# Altium footprint library jobeiri_library.PcbLib: 20 footprints (part 1 of 2)
Each footprint in its own frame and in the unit in brackets; x right, y up, seen from the top. Pads: shape width x height; smd on the part's side, far side on the other; paste and mask are expansions set on the pad; w line width, h text height; cw(c..) or ccw(c..) is an arc to the next point about the centre after c.
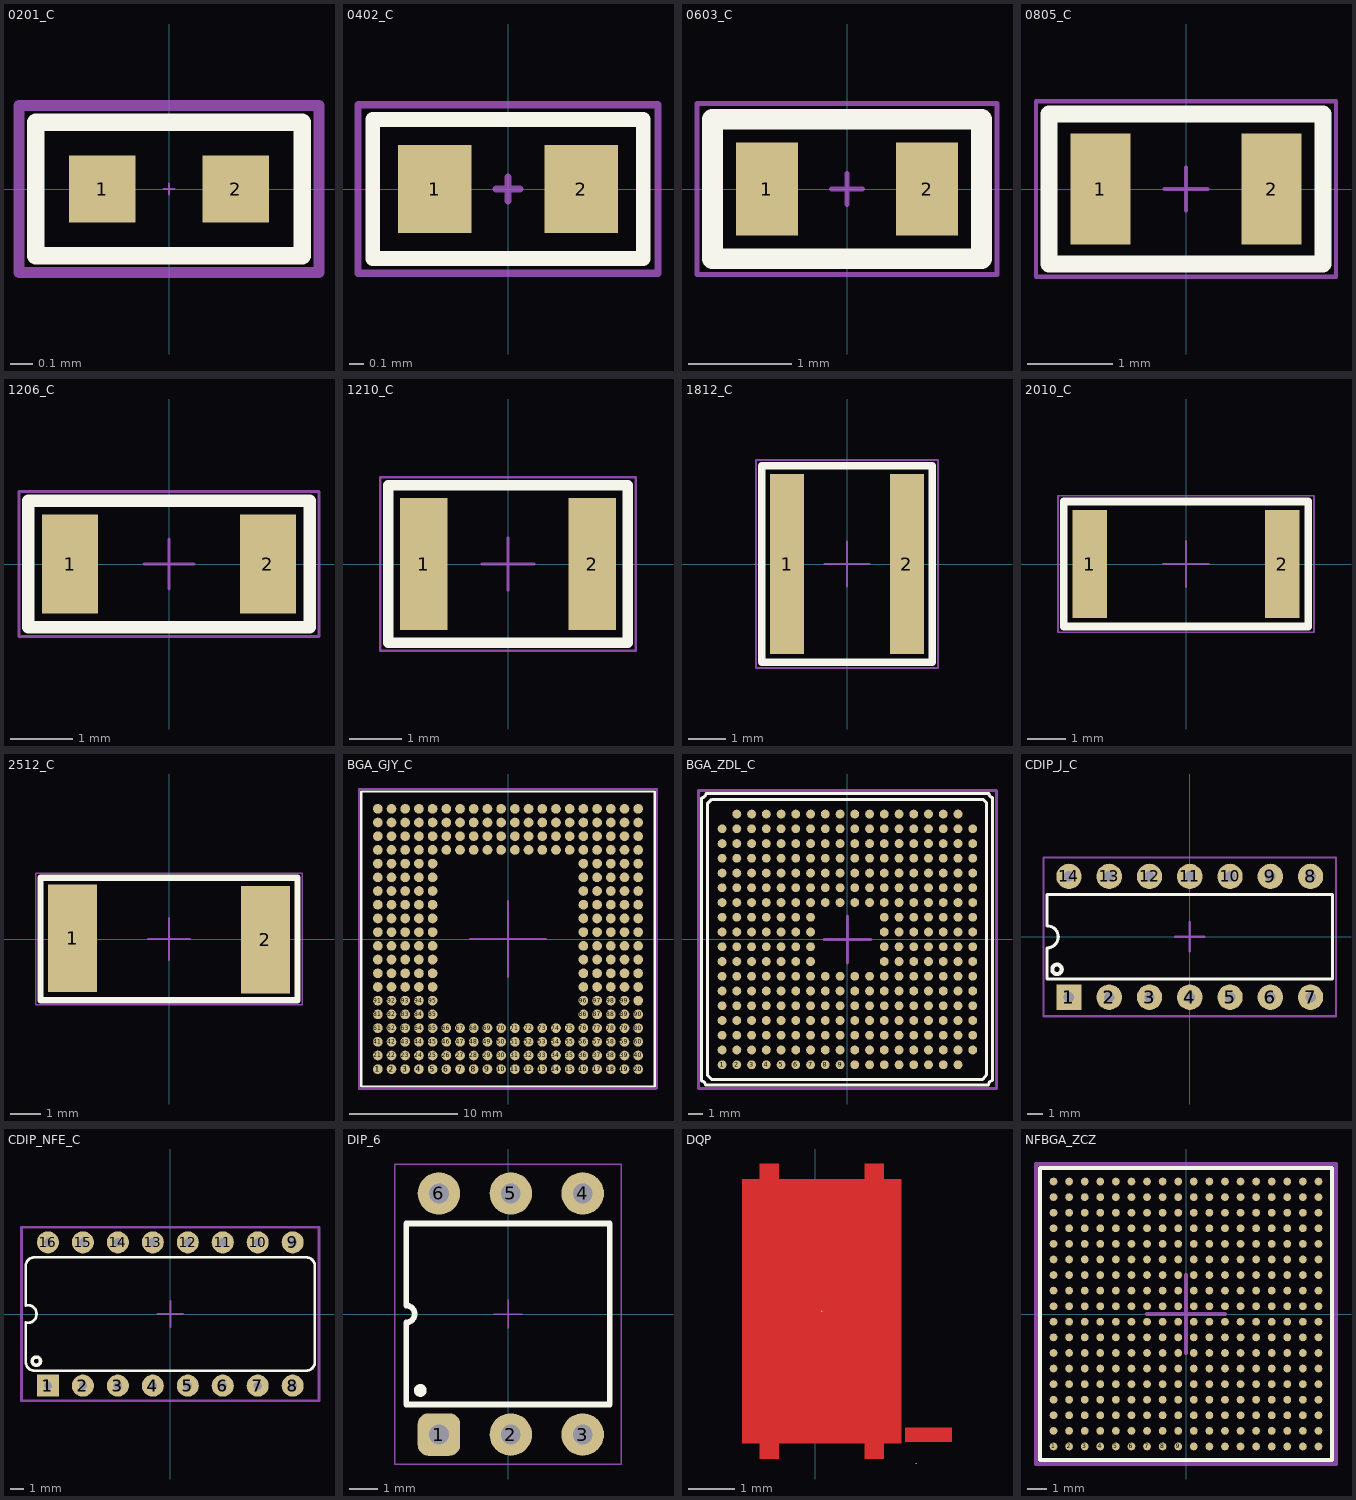
[diagram p0: the footprints below, top view; thin cyan lines are the x and y axes]

## 0201_C [mm]
pads (2):
  rect 0.3x0.3 smd: 1(-0.3,0) 2(0.3,0)
Top Overlay:
  lines w0.08: -0.6,-0.3 -0.6,0.3 0.6,0.3 0.6,-0.3 -0.6,-0.3
Mechanical 15:
  lines w0.01: -0.025,0 0,0 ; 0,-0.025 0,0 ; 0,0.025 0,0 ; 0.025,0 0,0
  lines w0.05: -0.675,-0.375 -0.675,0.375 0.675,0.375 0.675,-0.375 -0.675,-0.375
3D body: height 0.25, standoff 0, extent -0.3,-0.15 0.3,0.15

## 0402_C [mm]
pads (2):
  rect 0.5x0.6 smd: 1(-0.5,0) 2(0.5,0)
Top Overlay:
  lines w0.1: -0.925,-0.475 0.925,-0.475 ; -0.925,-0.475 -0.925,-0.475 ; -0.925,-0.475 -0.925,0.475 ; -0.925,0.475 0.925,0.475 ; -0.925,0.475 -0.925,0.475 ; 0.925,-0.475 0.925,-0.475 ; 0.925,-0.475 0.925,0.475 ; 0.925,0.475 0.925,0.475
Mechanical 15:
  lines w0.05: -0.08,0 0,0 ; 0,-0.08 0,0 ; 0,0.08 0,0 ; 0.08,0 0,0 ; -1.025,-0.575 1.025,-0.575 1.025,0.575 -1.025,0.575 -1.025,-0.575
3D body: height 0.35, standoff 0, extent -0.5,-0.25 0.5,0.25

## 0603_C [mm]
pads (2):
  rect 0.6x0.9 smd: 1(-0.775,0) 2(0.775,0)
Top Overlay:
  lines w0.2: -1.3,-0.675 1.3,-0.675 1.3,0.675 -1.3,0.675 -1.3,-0.675
Mechanical 15:
  lines w0.05: -0.15,0 0,0 ; 0,-0.15 0,0 ; 0,0.15 0,0 ; 0.15,0 0,0 ; -1.45,-0.825 1.45,-0.825 1.45,0.825 -1.45,0.825 -1.45,-0.825
3D body: height 0.45, standoff 0, extent -0.775,-0.425 0.775,0.425

## 0805_C [mm]
pads (2):
  rect 0.7x1.3 smd: 1(-1,0) 2(1,0)
Top Overlay:
  lines w0.2: -1.6,-0.875 -1.6,0.875 1.6,0.875 1.6,-0.875 -1.6,-0.875
Mechanical 15:
  lines w0.05: -0.25,0 0,0 ; 0,-0.25 0,0 ; 0,0.25 0,0 ; 0.25,0 0,0 ; -1.75,-1.025 -1.75,1.025 1.75,1.025 1.75,-1.025 -1.75,-1.025
3D body: height 0.45, standoff 0, extent -1,-0.6 1,0.6

## 1206_C [mm]
pads (2):
  rect 0.9x1.6 smd: 1(-1.6,0) 2(1.6,0)
Top Overlay:
  lines w0.2: -2.275,1 -2.275,-1.025 2.275,-1.025 ; -2.275,1.025 2.275,1.025 2.275,-1
Mechanical 15:
  lines w0.05: -0.4,0 0,0 ; 0,-0.4 0,0 ; 0,0.4 0,0 ; 0.4,0 0,0 ; -2.425,-1.175 2.425,-1.175 2.425,1.175 -2.425,1.175 -2.425,-1.175
3D body: height 0.55, standoff 0, extent -1.6,-0.8 1.6,0.8

## 1210_C [mm]
pads (2):
  rect 0.9x2.5 smd: 1(-1.6,0) 2(1.6,0)
Top Overlay:
  lines w0.2: -2.275,-1.5 -2.275,1.5 ; -2.25,-1.5 2.25,-1.5 ; -2.25,1.5 2.25,1.5 ; 2.275,-1.5 2.275,1.5
Mechanical 15:
  lines w0.05: -0.5,0 0,0 ; 0,-0.5 0,0 ; 0,0.5 0,0 ; 0.5,0 0,0 ; -2.425,-1.65 -2.425,1.65 2.425,1.65 2.425,-1.65 -2.425,-1.65
3D body: height 0.55, standoff 0, extent -1.6,-1.25 1.6,1.25

## 1812_C [mm]
pads (2):
  rect 0.9x4.8 smd: 1(-1.6,0) 2(1.6,0)
Top Overlay:
  lines w0.2: -2.275,2.6 -2.275,-2.625 2.275,-2.625 ; -2.275,2.625 2.275,2.625 2.275,-2.6
Mechanical 15:
  lines w0.05: -2.431,2.777 -2.431,-2.773 2.419,-2.773 ; -2.425,2.775 2.425,2.775 2.425,-2.775 ; -0.6,0 0,0 ; 0,-0.6 0,0 ; 0,0.6 0,0 ; 0.6,0 0,0
3D body: height 0.55, standoff 0, extent -1.6,-2.3 1.6,2.3

## 2010_C [mm]
pads (2):
  rect 0.9x2.8 smd: 1(-2.5,0) 2(2.5,0)
Top Overlay:
  lines w0.2: -3.175,-1.625 3.175,-1.625 ; -3.175,-1.6 -3.175,1.6 ; -3.175,1.625 3.175,1.625 ; 3.175,-1.6 3.175,1.6
Mechanical 15:
  lines w0.05: -0.6,0 0,0 ; 0,-0.6 0,0 ; 0,0.6 0,0 ; 0.6,0 0,0 ; -3.325,-1.775 -3.325,1.775 3.325,1.775 3.325,-1.775 -3.325,-1.775
3D body: height 0.6, standoff 0, extent -2.5,-1.25 2.5,1.25

## 2512_C [mm]
pads (2):
  rect 1.6x3.5 smd: 1(-3.15,0.025) 2(3.15,-0.025)
Top Overlay:
  lines w0.2: -4.2,1.975 -4.2,-2 4.2,-2 ; -4.2,2 4.2,2 4.2,-1.975
Mechanical 15:
  lines w0.05: -0.7,0 0,0 ; 0,-0.7 0,0 ; 0,0.7 0,0 ; 0.7,0 0,0 ; -4.35,-2.15 -4.35,2.15 4.35,2.15 4.35,-2.15 -4.35,-2.15
3D body: height 0.6, standoff 0, extent -3.15,-1.575 3.15,1.625

## BGA_GJY_C [mm] "From Texas Instrument"
pads (320):
  round 0.9 smd: 1(-12.065,-12.065) 1(-12.065,-12.065) 2(-10.795,-12.065) 2(-10.795,-12.065) 3(-9.525,-12.065) 3(-9.525,-12.065) 4(-8.255,-12.065) 4(-8.255,-12.065) 5(-6.985,-12.065) 5(-6.985,-12.065) 6(-5.715,-12.065) 6(-5.715,-12.065) 7(-4.445,-12.065) 7(-4.445,-12.065) 8(-3.175,-12.065) 8(-3.175,-12.065) 9(-1.905,-12.065) 9(-1.905,-12.065) 10(-0.635,-12.065) 10(-0.635,-12.065) 11(0.635,-12.065) 11(0.635,-12.065) 12(1.905,-12.065) 12(1.905,-12.065) 13(3.175,-12.065) 13(3.175,-12.065) 14(4.445,-12.065) 14(4.445,-12.065) 15(5.715,-12.065) 15(5.715,-12.065) 16(6.985,-12.065) 16(6.985,-12.065) 17(8.255,-12.065) 17(8.255,-12.065) 18(9.525,-12.065) 18(9.525,-12.065) 19(10.795,-12.065) 19(10.795,-12.065) 20(12.065,-12.065) 20(12.065,-12.065) 21(-12.065,-10.795) 22(-10.795,-10.795) 23(-9.525,-10.795) 24(-8.255,-10.795) 25(-6.985,-10.795) 26(-5.715,-10.795) 27(-4.445,-10.795) 28(-3.175,-10.795) 29(-1.905,-10.795) 30(-0.635,-10.795) 31(0.635,-10.795) 32(1.905,-10.795) 33(3.175,-10.795) 34(4.445,-10.795) 35(5.715,-10.795) 36(6.985,-10.795) 37(8.255,-10.795) 38(9.525,-10.795) 39(10.795,-10.795) 40(12.065,-10.795) 41(-12.065,-9.525) 42(-10.795,-9.525) 43(-9.525,-9.525) 44(-8.255,-9.525) 45(-6.985,-9.525) 46(-5.715,-9.525) 47(-4.445,-9.525) 48(-3.175,-9.525) 49(-1.905,-9.525) 50(-0.635,-9.525) 51(0.635,-9.525) 52(1.905,-9.525) 53(3.175,-9.525) 54(4.445,-9.525) 55(5.715,-9.525) 56(6.985,-9.525) 57(8.255,-9.525) 58(9.525,-9.525) 59(10.795,-9.525) 60(12.065,-9.525) 61(-12.065,-8.255) 62(-10.795,-8.255) 63(-9.525,-8.255) 64(-8.255,-8.255) 65(-6.985,-8.255) 66(-5.715,-8.255) 67(-4.445,-8.255) 68(-3.175,-8.255) 69(-1.905,-8.255) 70(-0.635,-8.255) 71(0.635,-8.255) 72(1.905,-8.255) 73(3.175,-8.255) 74(4.445,-8.255) 75(5.715,-8.255) 76(6.985,-8.255) 77(8.255,-8.255) 78(9.525,-8.255) 79(10.795,-8.255) 80(12.065,-8.255) 81(-12.065,-6.985) 82(-10.795,-6.985) 83(-9.525,-6.985) 84(-8.255,-6.985) 85(-6.985,-6.985) 86(6.985,-6.985) 87(8.255,-6.985) 88(9.525,-6.985) 89(10.795,-6.985) 90(12.065,-6.985) 91(-12.065,-5.715) 92(-10.795,-5.715) 93(-9.525,-5.715) 94(-8.255,-5.715) 95(-6.985,-5.715) 96(6.985,-5.715) 97(8.255,-5.715) 98(9.525,-5.715) 99(10.795,-5.715) 100(12.065,-5.715) 101(-12.065,-4.445) 102(-10.795,-4.445) 103(-9.525,-4.445) 104(-8.255,-4.445) 105(-6.985,-4.445) 106(6.985,-4.445) 107(8.255,-4.445) 108(9.525,-4.445) 109(10.795,-4.445) 110(12.065,-4.445) 111(-12.065,-3.175) 112(-10.795,-3.175) 113(-9.525,-3.175) 114(-8.255,-3.175) 115(-6.985,-3.175) 116(6.985,-3.175) 117(8.255,-3.175) 118(9.525,-3.175) 119(10.795,-3.175) 120(12.065,-3.175) 121(-12.065,-1.905) 122(-10.795,-1.905) 123(-9.525,-1.905) 124(-8.255,-1.905) 125(-6.985,-1.905) 126(6.985,-1.905) 127(8.255,-1.905) 128(9.525,-1.905) 129(10.795,-1.905) 130(12.065,-1.905) 131(-12.065,-0.635) 132(-10.795,-0.635) 133(-9.525,-0.635) 134(-8.255,-0.635) 135(-6.985,-0.635) 136(6.985,-0.635) 137(8.255,-0.635) 138(9.525,-0.635) 139(10.795,-0.635) 140(12.065,-0.635) 141(-12.065,0.635) 142(-10.795,0.635) 143(-9.525,0.635) 144(-8.255,0.635) 145(-6.985,0.635) 146(6.985,0.635) 147(8.255,0.635) 148(9.525,0.635) 149(10.795,0.635) 150(12.065,0.635) 151(-12.065,1.905) 152(-10.795,1.905) 153(-9.525,1.905) 154(-8.255,1.905) 155(-6.985,1.905) 156(6.985,1.905) 157(8.255,1.905) 158(9.525,1.905) 159(10.795,1.905) 160(12.065,1.905) 161(-12.065,3.175) 162(-10.795,3.175) 163(-9.525,3.175) 164(-8.255,3.175) 165(-6.985,3.175) 166(6.985,3.175) 167(8.255,3.175) 168(9.525,3.175) 169(10.795,3.175) 170(12.065,3.175) 171(-12.065,4.445) 172(-10.795,4.445) 173(-9.525,4.445) 174(-8.255,4.445) 175(-6.985,4.445) 176(6.985,4.445) 177(8.255,4.445) 178(9.525,4.445) 179(10.795,4.445) 180(12.065,4.445) 181(-12.065,5.715) 182(-10.795,5.715) 183(-9.525,5.715) 184(-8.255,5.715) 185(-6.985,5.715) 186(6.985,5.715) 187(8.255,5.715) 188(9.525,5.715) 189(10.795,5.715) 190(12.065,5.715) 191(-12.065,6.985) 192(-10.795,6.985) 193(-9.525,6.985) 194(-8.255,6.985) 195(-6.985,6.985) 196(6.985,6.985) 197(8.255,6.985) 198(9.525,6.985) 199(10.795,6.985) 200(12.065,6.985) 201(-12.065,8.255) 201(-12.065,8.255) 202(-10.795,8.255) 202(-10.795,8.255) 203(-9.525,8.255) 203(-9.525,8.255) 204(-8.255,8.255) 204(-8.255,8.255) 205(-6.985,8.255) 205(-6.985,8.255) 206(-5.715,8.255) 206(-5.715,8.255) 207(-4.445,8.255) 207(-4.445,8.255) 208(-3.175,8.255) 208(-3.175,8.255) 209(-1.905,8.255) 209(-1.905,8.255) 210(-0.635,8.255) 210(-0.635,8.255) 211(0.635,8.255) 211(0.635,8.255) 212(1.905,8.255) 212(1.905,8.255) 213(3.175,8.255) 213(3.175,8.255) 214(4.445,8.255) 214(4.445,8.255) 215(5.715,8.255) 215(5.715,8.255) 216(6.985,8.255) 216(6.985,8.255) 217(8.255,8.255) 217(8.255,8.255) 218(9.525,8.255) 218(9.525,8.255) 219(10.795,8.255) 219(10.795,8.255) 220(12.065,8.255) 220(12.065,8.255) 221(-12.065,9.525) 222(-10.795,9.525) 223(-9.525,9.525) 224(-8.255,9.525) 225(-6.985,9.525) 226(-5.715,9.525) 227(-4.445,9.525) 228(-3.175,9.525) 229(-1.905,9.525) 230(-0.635,9.525) 231(0.635,9.525) 232(1.905,9.525) 233(3.175,9.525) 234(4.445,9.525) 235(5.715,9.525) 236(6.985,9.525) 237(8.255,9.525) 238(9.525,9.525) 239(10.795,9.525) 240(12.065,9.525) 241(-12.065,10.795) 242(-10.795,10.795) 243(-9.525,10.795) 244(-8.255,10.795) 245(-6.985,10.795) 246(-5.715,10.795) 247(-4.445,10.795) 248(-3.175,10.795) 249(-1.905,10.795) 250(-0.635,10.795) 251(0.635,10.795) 252(1.905,10.795) 253(3.175,10.795) 254(4.445,10.795) 255(5.715,10.795) 256(6.985,10.795) 257(8.255,10.795) 258(9.525,10.795) 259(10.795,10.795) 260(12.065,10.795) 261(-12.065,12.065) 262(-10.795,12.065) 263(-9.525,12.065) 264(-8.255,12.065) 265(-6.985,12.065) 266(-5.715,12.065) 267(-4.445,12.065) 268(-3.175,12.065) 269(-1.905,12.065) 270(-0.635,12.065) 271(0.635,12.065) 272(1.905,12.065) 273(3.175,12.065) 274(4.445,12.065) 275(5.715,12.065) 276(6.985,12.065) 277(8.255,12.065) 278(9.525,12.065) 279(10.795,12.065) 280(12.065,12.065)
Top Overlay:
  lines w0.2: -13.6,-13.67 13.6,-13.67 ; -13.6,-13.6 -13.6,13.6 ; -13.6,13.67 13.6,13.67 ; 13.6,-13.6 13.6,13.6
Mechanical 15:
  lines w0.2: -3.5,0 0,0 ; 0,-3.5 0,0 ; 0,3.5 0,0 ; 3.5,0 0,0 ; -13.8,-13.9 -13.8,13.9 13.8,13.9 13.8,-13.8 13.7,-13.9 -13.8,-13.9

## BGA_ZDL_C [mm] "From Texas Instrument"
pads (305):
  round 0.6 smd: 1(-8.5,-8.5) 2(-7.5,-8.5) 3(-6.5,-8.5) 4(-5.5,-8.5) 5(-4.5,-8.5) 6(-3.5,-8.5) 7(-2.5,-8.5) 8(-1.5,-8.5) 9(-0.5,-8.5) 10(0.5,-8.5) 11(1.5,-8.5) 12(2.5,-8.5) 13(3.5,-8.5) 14(4.5,-8.5) 15(5.5,-8.5) 16(6.5,-8.5) 17(7.5,-8.5) 18(-8.5,-7.5) 19(-7.5,-7.5) 20(-6.5,-7.5) 21(-5.5,-7.5) 22(-4.5,-7.5) 23(-3.5,-7.5) 24(-2.5,-7.5) 25(-1.5,-7.5) 26(-0.5,-7.5) 27(0.5,-7.5) 28(1.5,-7.5) 29(2.5,-7.5) 30(3.5,-7.5) 31(4.5,-7.5) 32(5.5,-7.5) 33(6.5,-7.5) 34(7.5,-7.5) 35(8.5,-7.5) 36(-8.5,-6.5) 37(-7.5,-6.5) 38(-6.5,-6.5) 39(-5.5,-6.5) 40(-4.5,-6.5) 41(-3.5,-6.5) 42(-2.5,-6.5) 43(-1.5,-6.5) 44(-0.5,-6.5) 45(0.5,-6.5) 46(1.5,-6.5) 47(2.5,-6.5) 48(3.5,-6.5) 49(4.5,-6.5) 50(5.5,-6.5) 51(6.5,-6.5) 52(7.5,-6.5) 53(8.5,-6.5) 54(-8.5,-5.5) 55(-7.5,-5.5) 56(-6.5,-5.5) 57(-5.5,-5.5) 58(-4.5,-5.5) 59(-3.5,-5.5) 60(-2.5,-5.5) 61(-1.5,-5.5) 62(-0.5,-5.5) 63(0.5,-5.5) 64(1.5,-5.5) 65(2.5,-5.5) 66(3.5,-5.5) 67(4.5,-5.5) 68(5.5,-5.5) 69(6.5,-5.5) 70(7.5,-5.5) 71(8.5,-5.5) 72(-8.5,-4.5) 73(-7.5,-4.5) 74(-6.5,-4.5) 75(-5.5,-4.5) 76(-4.5,-4.5) 77(-3.5,-4.5) 78(-2.5,-4.5) 79(-1.5,-4.5) 80(-0.5,-4.5) 81(0.5,-4.5) 82(1.5,-4.5) 83(2.5,-4.5) 84(3.5,-4.5) 85(4.5,-4.5) 86(5.5,-4.5) 87(6.5,-4.5) 88(7.5,-4.5) 89(8.5,-4.5) 90(-8.5,-3.5) 91(-7.5,-3.5) 92(-6.5,-3.5) 93(-5.5,-3.5) 94(-4.5,-3.5) 95(-3.5,-3.5) 96(-2.5,-3.5) 97(-1.5,-3.5) 98(-0.5,-3.5) 99(0.5,-3.5) 100(1.5,-3.5) 101(2.5,-3.5) 102(3.5,-3.5) 103(4.5,-3.5) 104(5.5,-3.5) 105(6.5,-3.5) 106(7.5,-3.5) 107(8.5,-3.5) 108(-8.5,-2.5) 109(-7.5,-2.5) 110(-6.5,-2.5) 111(-5.5,-2.5) 112(-4.5,-2.5) 113(-3.5,-2.5) 114(-2.5,-2.5) 115(-1.5,-2.5) 116(-0.5,-2.5) 117(0.5,-2.5) 118(1.5,-2.5) 119(2.5,-2.5) 120(3.5,-2.5) 121(4.5,-2.5) 122(5.5,-2.5) 123(6.5,-2.5) 124(7.5,-2.5) 125(8.5,-2.5) 126(-8.5,-1.5) 127(-7.5,-1.5) 128(-6.5,-1.5) 129(-5.5,-1.5) 130(-4.5,-1.5) 131(-3.5,-1.5) 132(-2.5,-1.5) 133(2.5,-1.5) 134(3.5,-1.5) 135(4.5,-1.5) 136(5.5,-1.5) 137(6.5,-1.5) 138(7.5,-1.5) 139(8.5,-1.5) 140(-8.5,-0.5) 141(-7.5,-0.5) 142(-6.5,-0.5) 143(-5.5,-0.5) 144(-4.5,-0.5) 145(-3.5,-0.5) 146(-2.5,-0.5) 147(2.5,-0.5) 148(3.5,-0.5) 149(4.5,-0.5) 150(5.5,-0.5) 151(6.5,-0.5) 152(7.5,-0.5) 153(8.5,-0.5) 154(-8.5,0.5) 155(-7.5,0.5) 156(-6.5,0.5) 157(-5.5,0.5) 158(-4.5,0.5) 159(-3.5,0.5) 160(-2.5,0.5) 161(2.5,0.5) 162(3.5,0.5) 163(4.5,0.5) 164(5.5,0.5) 165(6.5,0.5) 166(7.5,0.5) 167(8.5,0.5) 168(-8.5,1.5) 169(-7.5,1.5) 170(-6.5,1.5) 171(-5.5,1.5) 172(-4.5,1.5) 173(-3.5,1.5) 174(-2.5,1.5) 175(2.5,1.5) 176(3.5,1.5) 177(4.5,1.5) 178(5.5,1.5) 179(6.5,1.5) 180(7.5,1.5) 181(8.5,1.5) 182(-8.5,2.5) 183(-7.5,2.5) 184(-6.5,2.5) 185(-5.5,2.5) 186(-4.5,2.5) 187(-3.5,2.5) 188(-2.5,2.5) 189(-1.5,2.5) 190(-0.5,2.5) 191(0.5,2.5) 192(1.5,2.5) 193(2.5,2.5) 194(3.5,2.5) 195(4.5,2.5) 196(5.5,2.5) 197(6.5,2.5) 198(7.5,2.5) 199(8.5,2.5) 200(-8.5,3.5) 201(-7.5,3.5) 202(-6.5,3.5) 203(-5.5,3.5) 204(-4.5,3.5) 205(-3.5,3.5) 206(-2.5,3.5) 207(-1.5,3.5) 208(-0.5,3.5) 209(0.5,3.5) 210(1.5,3.5) 211(2.5,3.5) 212(3.5,3.5) 213(4.5,3.5) 214(5.5,3.5) 215(6.5,3.5) 216(7.5,3.5) 217(8.5,3.5) 218(-8.5,4.5) 219(-7.5,4.5) 220(-6.5,4.5) 221(-5.5,4.5) 222(-4.5,4.5) 223(-3.5,4.5) 224(-2.5,4.5) 225(-1.5,4.5) 226(-0.5,4.5) 227(0.5,4.5) 228(1.5,4.5) 229(2.5,4.5) 230(3.5,4.5) 231(4.5,4.5) 232(5.5,4.5) 233(6.5,4.5) 234(7.5,4.5) 235(8.5,4.5) 236(-8.5,5.5) 237(-7.5,5.5) 238(-6.5,5.5) 239(-5.5,5.5) 240(-4.5,5.5) 241(-3.5,5.5) 242(-2.5,5.5) 243(-1.5,5.5) 244(-0.5,5.5) 245(0.5,5.5) 246(1.5,5.5) 247(2.5,5.5) 248(3.5,5.5) 249(4.5,5.5) 250(5.5,5.5) 251(6.5,5.5) 252(7.5,5.5) 253(8.5,5.5) 254(-8.5,6.5) 255(-7.5,6.5) 256(-6.5,6.5) 257(-5.5,6.5) 258(-4.5,6.5) 259(-3.5,6.5) 260(-2.5,6.5) 261(-1.5,6.5) 262(-0.5,6.5) 263(0.5,6.5) 264(1.5,6.5) 265(2.5,6.5) 266(3.5,6.5) 267(4.5,6.5) 268(5.5,6.5) 269(6.5,6.5) 270(7.5,6.5) 271(8.5,6.5) 272(-8.5,7.5) 273(-7.5,7.5) 274(-6.5,7.5) 275(-5.5,7.5) 276(-4.5,7.5) 277(-3.5,7.5) 278(-2.5,7.5) 279(-1.5,7.5) 280(-0.5,7.5) 281(0.5,7.5) 282(1.5,7.5) 283(2.5,7.5) 284(3.5,7.5) 285(4.5,7.5) 286(5.5,7.5) 287(6.5,7.5) 288(7.5,7.5) 289(8.5,7.5) 290(-7.5,8.5) 291(-6.5,8.5) 292(-5.5,8.5) 293(-4.5,8.5) 294(-3.5,8.5) 295(-2.5,8.5) 296(-1.5,8.5) 297(-0.5,8.5) 298(0.5,8.5) 299(1.5,8.5) 300(2.5,8.5) 301(3.5,8.5) 302(4.5,8.5) 303(5.5,8.5) 304(6.5,8.5) 305(7.5,8.5)
Top Overlay:
  lines w0.2: -9.9,-9.6 cw(c-9.901,-9.873) -9.628,-9.874 9.572,-9.874 cw(c9.857,-9.858) 9.841,-9.574 9.841,9.626 cw(c9.857,9.884) 9.6,9.9 -9.6,9.9 cw(c-9.9,9.9) -9.9,9.6 -9.9,-9.6 ; -9.5,-9.2 -9.5,9.2 -9.2,9.5 9.2,9.5 9.446,9.24 9.446,-9.16 9.175,-9.489 -9.225,-9.489 -9.5,-9.2
Mechanical 15:
  lines w0.2: -1.6,0 0,0 ; 0,-1.6 0,0 ; 0,1.6 0,0 ; 1.6,0 0,0 ; -10.1,-10.1 10.1,-10.1 10.1,10.1 -10.1,10.1 -10.1,-10.1

## CDIP_J_C [mm] "CERAMIC DUAL IN LINE PACKAGE"
pads (21):
  rect 1.6x1.6 hole 0.66: 1(-7.62,-3.81) 1(-7.62,-3.81)
  round 1.6 hole 0.66: 2(-5.08,-3.81) 2(-5.08,-3.81) 3(-2.54,-3.81) 3(-2.54,-3.81) 4(0,-3.81) 4(0,-3.81) 5(2.54,-3.81) 5(2.54,-3.81) 6(5.08,-3.81) 6(5.08,-3.81) 7(7.62,-3.81) 7(7.62,-3.81) 8(7.62,3.81) 9(5.08,3.81) 10(2.54,3.81) 11(0,3.81) 12(-2.54,3.81) 13(-5.08,3.81) 14(-7.62,3.81)
Top Overlay:
  circle w0.254: c-8.375,-2.05 r0.3
  lines w0.2: -9,-2.66 -9,-0.7 -8.998,-0.7 ccw(c-9,0) -8.998,0.7 -9,0.7 -9,2.66 9,2.66 9,-2.66 -9,-2.66
Mechanical 15:
  lines w0.05: -9.35,-5.275 -9.325,-5.275
  lines w0.15: -0.925,0 0,0 ; 0,-0.925 0,0 ; 0,0.925 0,0 ; 0.925,0 0,0 ; -9.225,-5 -9.225,5 9.225,5 9.225,-5 -9.225,-5

## CDIP_NFE_C [mm] "CERAMIC DUAL IN LINE PACKAGE"
pads (24):
  rect 1.6x1.6 hole 0.6: 1(-8.89,-5.205) 1(-8.89,-5.205)
  round 1.6 hole 0.6: 2(-6.35,-5.205) 2(-6.35,-5.205) 3(-3.81,-5.205) 3(-3.81,-5.205) 4(-1.27,-5.205) 4(-1.27,-5.205) 5(1.27,-5.205) 5(1.27,-5.205) 6(3.81,-5.205) 6(3.81,-5.205) 7(6.35,-5.205) 7(6.35,-5.205) 8(8.89,-5.205) 8(8.89,-5.205) 9(8.89,5.205) 10(6.35,5.205) 11(3.81,5.205) 12(1.27,5.205) 13(-1.27,5.205) 14(-3.81,5.205) 15(-6.35,5.205) 16(-8.89,5.205)
Top Overlay:
  circle w0.254: c-9.725,-3.425 r0.3
  lines w0.2: -10.493,3.5 -10.5,3.5 ; -9.875,-4.12 cw(c-9.875,-3.5) -10.495,-3.5 -10.495,-0.624 -10.493,-0.624 ccw(c-10.35,0) -10.493,0.624 -10.5,0.624 -10.5,3.5 ; -9.855,-4.12 9.88,-4.12 ; 9.875,-4.12 ccw(c9.875,-3.5) 10.495,-3.5 ; 9.875,4.12 cw(c9.875,3.5) 10.495,3.5 ; 9.88,4.12 -9.88,4.12 ccw(c-9.88,3.5) -10.5,3.5 ; 10.5,-3.5 10.5,3.5
Mechanical 15:
  lines w0.15: -0.925,0 0,0 ; 0,-0.925 0,0 ; 0,0.925 0,0 ; 0.925,0 0,0
  lines w0.2: -10.8,6.3 -10.8,-6.3 10.8,-6.3 10.8,6.3 -10.8,6.3 ; -10.8,6.3 -10.8,6.3

## DIP_6 [mm]
pads (6):
  rrect50% 1.5x1.5 hole 0.7: 1(-2.44,-4.26)
  round 1.5 hole 0.7: 2(0.1,-4.26) 3(2.64,-4.26) 4(2.64,4.26) 5(0.1,4.26) 6(-2.44,4.26)
Top Overlay:
  circle w0.254: c-3.1,-2.7 r0.1
  lines w0.2: -3.6,0.301 -3.6,3.2 3.6,3.2 3.6,-3.2 -3.6,-3.2 -3.6,-0.301 -3.599,-0.301 ccw(c-3.6,0) -3.599,0.301
Mechanical 15:
  lines w0.05: -0.5,0 0,0 ; 0,-0.5 0,0 ; 0,0.5 0,0 ; 0.5,0 0,0 ; -4,-5.3 -4,5.3 4,5.3 4,-5.3 -4,-5.3

## DQP [mil]
pads (2):
  round 1 smd mask+0: 9(84.76,169.17) 13(5.28,297.17)
Top Layer:
  region: 114.76,199.17 75.39,199.17 75.39,187.36 114.76,187.36
  region: 57.64,408.17 57.64,421.18 41.5,421.18 41.5,408.15 -30.94,408.15 -30.94,421.18 -47.09,421.18 -47.09,408.15 -61.65,408.15 -61.65,186.18 -47.09,186.18 -47.09,173.15 -30.94,173.15 -30.94,186.18 41.5,186.18 41.5,173.15 57.64,173.15 57.64,186.18 72.2,186.18 72.2,408.19
3D body: height 78.74, standoff 0, extent -93.15,179.06 103.7,415.28

## NFBGA_ZCZ [mm] "From Texas Instrument"
pads (324):
  round 0.4 smd: 1(-6.8,-6.8) 2(-6,-6.8) 3(-5.2,-6.8) 4(-4.4,-6.8) 5(-3.6,-6.8) 6(-2.8,-6.8) 7(-2,-6.8) 8(-1.2,-6.8) 9(-0.4,-6.8) 10(0.4,-6.8) 11(1.2,-6.8) 12(2,-6.8) 13(2.8,-6.8) 14(3.6,-6.8) 15(4.4,-6.8) 16(5.2,-6.8) 17(6,-6.8) 18(6.8,-6.8) 19(-6.8,-6) 20(-6,-6) 21(-5.2,-6) 22(-4.4,-6) 23(-3.6,-6) 24(-2.8,-6) 25(-2,-6) 26(-1.2,-6) 27(-0.4,-6) 28(0.4,-6) 29(1.2,-6) 30(2,-6) 31(2.8,-6) 32(3.6,-6) 33(4.4,-6) 34(5.2,-6) 35(6,-6) 36(6.8,-6) 37(-6.8,-5.2) 38(-6,-5.2) 39(-5.2,-5.2) 40(-4.4,-5.2) 41(-3.6,-5.2) 42(-2.8,-5.2) 43(-2,-5.2) 44(-1.2,-5.2) 45(-0.4,-5.2) 46(0.4,-5.2) 47(1.2,-5.2) 48(2,-5.2) 49(2.8,-5.2) 50(3.6,-5.2) 51(4.4,-5.2) 52(5.2,-5.2) 53(6,-5.2) 54(6.8,-5.2) 55(-6.8,-4.4) 56(-6,-4.4) 57(-5.2,-4.4) 58(-4.4,-4.4) 59(-3.6,-4.4) 60(-2.8,-4.4) 61(-2,-4.4) 62(-1.2,-4.4) 63(-0.4,-4.4) 64(0.4,-4.4) 65(1.2,-4.4) 66(2,-4.4) 67(2.8,-4.4) 68(3.6,-4.4) 69(4.4,-4.4) 70(5.2,-4.4) 71(6,-4.4) 72(6.8,-4.4) 73(-6.8,-3.6) 74(-6,-3.6) 75(-5.2,-3.6) 76(-4.4,-3.6) 77(-3.6,-3.6) 78(-2.8,-3.6) 79(-2,-3.6) 80(-1.2,-3.6) 81(-0.4,-3.6) 82(0.4,-3.6) 83(1.2,-3.6) 84(2,-3.6) 85(2.8,-3.6) 86(3.6,-3.6) 87(4.4,-3.6) 88(5.2,-3.6) 89(6,-3.6) 90(6.8,-3.6) 91(-6.8,-2.8) 92(-6,-2.8) 93(-5.2,-2.8) 94(-4.4,-2.8) 95(-3.6,-2.8) 96(-2.8,-2.8) 97(-2,-2.8) 98(-1.2,-2.8) 99(-0.4,-2.8) 100(0.4,-2.8) 101(1.2,-2.8) 102(2,-2.8) 103(2.8,-2.8) 104(3.6,-2.8) 105(4.4,-2.8) 106(5.2,-2.8) 107(6,-2.8) 108(6.8,-2.8) 109(-6.8,-2) 110(-6,-2) 111(-5.2,-2) 112(-4.4,-2) 113(-3.6,-2) 114(-2.8,-2) 115(-2,-2) 116(-1.2,-2) 117(-0.4,-2) 118(0.4,-2) 119(1.2,-2) 120(2,-2) 121(2.8,-2) 122(3.6,-2) 123(4.4,-2) 124(5.2,-2) 125(6,-2) 126(6.8,-2) 127(-6.8,-1.2) 128(-6,-1.2) 129(-5.2,-1.2) 130(-4.4,-1.2) 131(-3.6,-1.2) 132(-2.8,-1.2) 133(-2,-1.2) 134(-1.2,-1.2) 135(-0.4,-1.2) 136(0.4,-1.2) 137(1.2,-1.2) 138(2,-1.2) 139(2.8,-1.2) 140(3.6,-1.2) 141(4.4,-1.2) 142(5.2,-1.2) 143(6,-1.2) 144(6.8,-1.2) 145(-6.8,-0.4) 146(-6,-0.4) 147(-5.2,-0.4) 148(-4.4,-0.4) 149(-3.6,-0.4) 150(-2.8,-0.4) 151(-2,-0.4) 152(-1.2,-0.4) 153(-0.4,-0.4) 154(0.4,-0.4) 155(1.2,-0.4) 156(2,-0.4) 157(2.8,-0.4) 158(3.6,-0.4) 159(4.4,-0.4) 160(5.2,-0.4) 161(6,-0.4) 162(6.8,-0.4) 163(-6.8,0.4) 164(-6,0.4) 165(-5.2,0.4) 166(-4.4,0.4) 167(-3.6,0.4) 168(-2.8,0.4) 169(-2,0.4) 170(-1.2,0.4) 171(-0.4,0.4) 172(0.4,0.4) 173(1.2,0.4) 174(2,0.4) 175(2.8,0.4) 176(3.6,0.4) 177(4.4,0.4) 178(5.2,0.4) 179(6,0.4) 180(6.8,0.4) 181(-6.8,1.2) 182(-6,1.2) 183(-5.2,1.2) 184(-4.4,1.2) 185(-3.6,1.2) 186(-2.8,1.2) 187(-2,1.2) 188(-1.2,1.2) 189(-0.4,1.2) 190(0.4,1.2) 191(1.2,1.2) 192(2,1.2) 193(2.8,1.2) 194(3.6,1.2) 195(4.4,1.2) 196(5.2,1.2) 197(6,1.2) 198(6.8,1.2) 199(-6.8,2) 200(-6,2) 201(-5.2,2) 202(-4.4,2) 203(-3.6,2) 204(-2.8,2) 205(-2,2) 206(-1.2,2) 207(-0.4,2) 208(0.4,2) 209(1.2,2) 210(2,2) 211(2.8,2) 212(3.6,2) 213(4.4,2) 214(5.2,2) 215(6,2) 216(6.8,2) 217(-6.8,2.8) 218(-6,2.8) 219(-5.2,2.8) 220(-4.4,2.8) 221(-3.6,2.8) 222(-2.8,2.8) 223(-2,2.8) 224(-1.2,2.8) 225(-0.4,2.8) 226(0.4,2.8) 227(1.2,2.8) 228(2,2.8) 229(2.8,2.8) 230(3.6,2.8) 231(4.4,2.8) 232(5.2,2.8) 233(6,2.8) 234(6.8,2.8) 235(-6.8,3.6) 236(-6,3.6) 237(-5.2,3.6) 238(-4.4,3.6) 239(-3.6,3.6) 240(-2.8,3.6) 241(-2,3.6) 242(-1.2,3.6) 243(-0.4,3.6) 244(0.4,3.6) 245(1.2,3.6) 246(2,3.6) 247(2.8,3.6) 248(3.6,3.6) 249(4.4,3.6) 250(5.2,3.6) 251(6,3.6) 252(6.8,3.6) 253(-6.8,4.4) 254(-6,4.4) 255(-5.2,4.4) 256(-4.4,4.4) 257(-3.6,4.4) 258(-2.8,4.4) 259(-2,4.4) 260(-1.2,4.4) 261(-0.4,4.4) 262(0.4,4.4) 263(1.2,4.4) 264(2,4.4) 265(2.8,4.4) 266(3.6,4.4) 267(4.4,4.4) 268(5.2,4.4) 269(6,4.4) 270(6.8,4.4) 271(-6.8,5.2) 272(-6,5.2) 273(-5.2,5.2) 274(-4.4,5.2) 275(-3.6,5.2) 276(-2.8,5.2) 277(-2,5.2) 278(-1.2,5.2) 279(-0.4,5.2) 280(0.4,5.2) 281(1.2,5.2) 282(2,5.2) 283(2.8,5.2) 284(3.6,5.2) 285(4.4,5.2) 286(5.2,5.2) 287(6,5.2) 288(6.8,5.2) 289(-6.8,6) 290(-6,6) 291(-5.2,6) 292(-4.4,6) 293(-3.6,6) 294(-2.8,6) 295(-2,6) 296(-1.2,6) 297(-0.4,6) 298(0.4,6) 299(1.2,6) 300(2,6) 301(2.8,6) 302(3.6,6) 303(4.4,6) 304(5.2,6) 305(6,6) 306(6.8,6) 307(-6.8,6.8) 308(-6,6.8) 309(-5.2,6.8) 310(-4.4,6.8) 311(-3.6,6.8) 312(-2.8,6.8) 313(-2,6.8) 314(-1.2,6.8) 315(-0.4,6.8) 316(0.4,6.8) 317(1.2,6.8) 318(2,6.8) 319(2.8,6.8) 320(3.6,6.8) 321(4.4,6.8) 322(5.2,6.8) 323(6,6.8) 324(6.8,6.8)
Top Overlay:
  lines w0.2: -7.5,-7.5 7.5,-7.5 7.5,7.5 -7.5,7.5 -7.5,-7.5
Mechanical 15:
  lines w0.2: -2,0 0,0 ; 0,-2 0,0 ; 0,2 0,0 ; 2,0 0,0 ; -7.7,-7.7 7.7,-7.7 7.7,7.7 -7.7,7.7 -7.7,-7.7